# Altium schematic symbol library DE-010824.SchLib: 141 symbols (part 2 of 2)
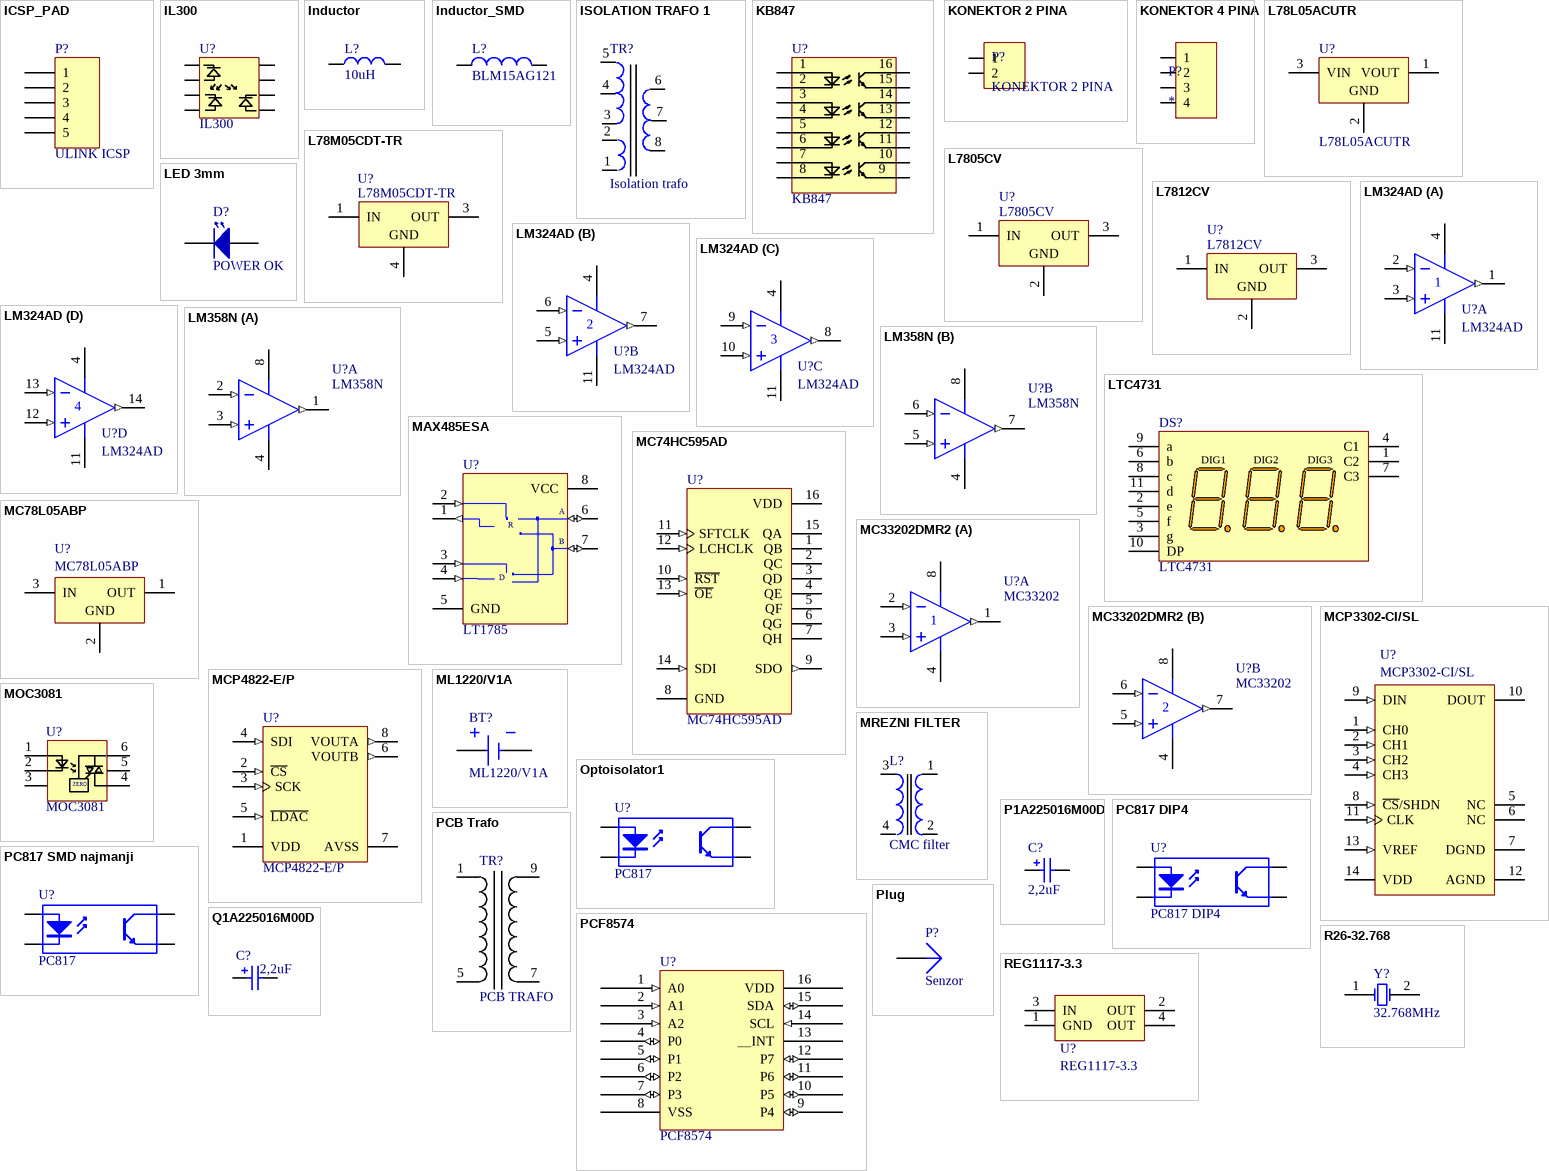
[diagram p4: symbols ICSP_PAD to REG1117-3.3]

## ISOLATION TRAFO 1
designator TR?, comment Isolation trafo
SMPS small ferite toroide trafo
footprint ISOLATION TRAFO 1 (SMPS ferit toroid trafo)
pins: 1, 2, 3, 4, 5, 6, 7, 8

## KB847
designator U?
4 pack DIL optocoupler
footprint KB847 (4 pack optocoupler)
pins: 1, 2, 3, 4, 5, 6, 7, 8, 9, 10, 11, 12, 13, 14, 15, 16

## KONEKTOR 2 PINA
designator P?
Razdvojivi konetor 2 pina
footprint KONEKTOR 2 PINA (Razdvojivi konektor 2 pina)
pins: 1, 2

## KONEKTOR 4 PINA
designator P?
Razdvojivi konektor 4 pina
footprint KONEKTOR 4 PINA (Razdvojivi konektor 4 pina)
pins: 1, 2, 3, 4

## L78L05ACUTR
designator U?
Positive Voltage Regulator, 5V, 4-Pin SOT-89, Tape and Reel; DatasheetVersion: Feb-2011; PackageVersion: 2011; PackageReference: SOT-89; PackageDescription: 3-Pin SOT-89 Package 1.5 mm Pitch, 4.1 mm Lead Span; PartNumber: L78L05ACUTR; ComponentLink1Description: Manufacturer URL; ComponentLink1URL: http://www.st.com; ComponentLink2Description: Datasheet; ComponentLink2URL: http://www.st.com/internet/com/TECHNICAL_RESOURCES/TECHNICAL_LITERATURE/DATASHEET/CD00000446.pdf
footprint SOT-89_N (SOT89, 3-Leads, Body 4.5x2.4 mm, Pitch 1.5mm, Lead Span 4.1mm, IPC Medium Density)
footprint SOT-89_L (SOT89, 3-Leads, Body 4.5x2.4 mm, Pitch 1.5mm, Lead Span 4.1mm, IPC High Density)
footprint SOT-89_M (SOT89, 3-Leads, Body 4.5x2.4 mm, Pitch 1.5mm, Lead Span 4.1mm, IPC Low Density)
pins: 1 VOUT (power), 2 GND (power), 3 VIN (power)

## L78M05CDT-TR
designator U?
Positive Voltage Regulator, 5V, 3-Pin DPAK, Tape and Reel; DatasheetVersion: Nov-2010; PackageVersion: 2011; PackageReference: TO-252; PackageDescription: 3-Pin Transistor Outline Package 2.28 mm Pitch, 9.7 mm Lead Span (DPAK); PartNumber: L78M05CDT-TR; ComponentLink1Description: Manufacturer URL; ComponentLink1URL: http://www.st.com; ComponentLink2Description: Datasheet; ComponentLink2URL: http://www.st.com/internet/com/TECHNICAL_RESOURCES/TECHNICAL_LITERATURE/DATASHEET/CD00000447.pdf
footprint TO-252_N (D-PAK, 4-Leads, Body 6.1x6.5mm, Pitch 2.28mm, Lead Span 9.7mm, IPC Medium Density)
footprint TO-252_L (D-PAK, 4-Leads, Body 6.1x6.5mm, Pitch 2.28mm, Lead Span 9.7mm, IPC High Density)
footprint TO-252_M (D-PAK, 4-Leads, Body 6.1x6.5mm, Pitch 2.28mm, Lead Span 9.7mm, IPC Low Density)
pins: 1 IN (power), 3 OUT (power), 4 GND (power)

## L7805CV
designator U?
Positive Voltage Regulator, 5V, 3-Pin TO-220; DatasheetVersion: Nov-2011; PackageVersion: ver3.0; PackageReference: TO220; PackageDescription: TO, Thru-Hole, Vertical, Heatsink Mounted; 3 In-Line Leads; Pitch 2.54 mm; PartNumber: L7805CV; ComponentLink1Description: Manufacturer URL; ComponentLink1URL: http://www.st.com; ComponentLink2Description: Datasheet; ComponentLink2URL: http://www.st.com/internet/com/TECHNICAL_RESOURCES/TECHNICAL_LITERATURE/DATASHEET/CD00000444.pdf; ComponentLink3Description: Package Specification; ComponentLink3URL: http://www.st.com/internet/com/TECHNICAL_RESOURCES/TECHNICAL_LITERATURE/PACKAGE_INFORMATION/CD00004649.pdf
footprint TO220 (TO, Thru-Hole, Vertical, Heatsink Mounted; 3 In-Line Leads; Pitch 2.54 mm)
pins: 1 IN (power), 2 GND (power), 3 OUT (power)

## L7812CV
designator U?
Positive Voltage Regulator, 12V, 3-Pin TO-220; DatasheetVersion: Nov-2011; PackageVersion: ver3.0; PackageReference: TO220; PackageDescription: TO, Thru-Hole, Vertical, Heatsink Mounted; 3 In-Line Leads; Pitch 2.54 mm; PartNumber: L7812CV; ComponentLink1Description: Manufacturer URL; ComponentLink1URL: http://www.st.com; ComponentLink2Description: Datasheet; ComponentLink2URL: http://www.st.com/internet/com/TECHNICAL_RESOURCES/TECHNICAL_LITERATURE/DATASHEET/CD00000444.pdf; ComponentLink3Description: Package Specification; ComponentLink3URL: http://www.st.com/internet/com/TECHNICAL_RESOURCES/TECHNICAL_LITERATURE/PACKAGE_INFORMATION/CD00004649.pdf
footprint TO220 (TO, Thru-Hole, Vertical, Heatsink Mounted; 3 In-Line Leads; Pitch 2.54 mm)
pins: 1 IN (power), 2 GND (power), 3 OUT (power)

## LED 3mm
designator D?, comment POWER OK
footprint LED 3mm
pins: 1, 2

## LM324AD
designator U?
Quad Low-Power Operational Amplifier; Published: 17-Jul-2002; LatestRevisionDate: 13-Apr-2006; LatestRevisionNote: IPC-7351 Footprint Added.; DatasheetVersion: 1988; PackageVersion: 1991; PackageReference: 751A-02; Publisher: Altium Limited; PackageDescription: 14-Pin Small Outline Integrated Circuit 1.27 mm Pitch; Code_IPC: SOIC127P600-14; ComponentLink1Description: Manufacturer Link; ComponentLink1URL: http://www.onsemi.com/site/products/parametrics/0,4446,251,00.html; ComponentLink2Description: Datasheet; ComponentLink2URL: http://www.onsemi.com/pub/Collateral/LM324-D.PDF
footprint 751A-02_N (SOIC, 14-Leads, Body 8.7x3.9mm, Pitch 1.27mm, IPC Medium Density)
footprint 751A-02_L (SOIC, 14-Leads, Body 8.7x3.9mm, Pitch 1.27mm, IPC High Density)
footprint 751A-02_M (SOIC, 14-Leads, Body 8.7x3.9mm, Pitch 1.27mm, IPC Low Density)
3D model 751A-02 (14-Pin Small Outline Integrated Circuit 1.27 mm Pitch)
pins on every part: 4 V+ (power), 11 V- (power)
part A pins: 1 OUT (out), 2 IN- (in), 3 IN+ (in)
part B pins: 5 IN+ (in), 6 IN- (in), 7 OUT (out)
part C pins: 8 OUT (out), 9 IN- (in), 10 IN+ (in)
part D pins: 12 IN+ (in), 13 IN- (in), 14 OUT (out)

## LM358N
designator U?
Single-Supply Dual Operational Amplifier; Published: 28-Feb-2003; DatasheetVersion: Jan-2002, Rev. 7; PackageVersion: 1998; PackageReference: 626-05; Publisher: Altium Limited; PackageDescription: DIP; 8 Leads; Row Spacing 7.62 mm; Pitch 2.54 mm; ComponentLink1Description: Manufacturer Link; ComponentLink1URL: http://www.onsemi.com/; ComponentLink2Description: Datasheet; ComponentLink2URL: http://www.onsemi.com/pub/Collateral/LM358-D.PDF
footprint DIP8 (DIP; 8 Leads; Row Spacing 7.62 mm; Pitch 2.54 mm)
pins on every part: 4 V- (power), 8 V+ (power)
part A pins: 1 OUT (out), 2 IN- (in), 3 IN+ (in)
part B pins: 5 IN+ (in), 6 IN- (in), 7 OUT (out)

## LTC4731
designator DS?
10 mm Gray Surface 7-Segment Display: 3-Digit with 2-Colons, CC, Slim Font, Untinted-Diffused; LuminousIntensity: 3200 ucd (Minimum).; LED_Colour: Green; Note: No pins are present in positions 9, 10 and 13.; Published: 26-May-2004; LatestRevisionDate: 11-Oct-2004; LatestRevisionNote: Display outline superimposed on PCB Footprint.; DatasheetDocument: 20-Nov-2001; PackageDocument: 20-Nov-2001; PackageReference: HDSP-4; Publisher: Altium Limited; ComponentLink1Description: Manufacturer Link; ComponentLink1URL: http://www.agilent.com/; ComponentLink2Description: Datasheet; ComponentLink2URL: http://cp.literature.agilent.com/litweb/pdf/5988-4824EN.pdf
footprint LTC4731 (Common Cathode 3 digits 7 segment LED display)
pins: 1 C2 "Common Anode2", 2 e "Digits (1-3) e Cathode", 3 g "Digits (1-3) g Cathode", 4 C1 "Common Anode1", 5 f "Digits (1-3) f Cathode", 6 b "Digits (1-3) b Cathode", 7 C3 "Common Anode3", 8 c "Digits (1-3) c Cathode", 9 a "Digits (1-3) a Cathode", 10 DP "DP Cathode", 11 d "Digits (1-3) d Cathode"
text: DIG1; DIG2; DIG3

## MAX485ESA
designator U?, comment LT1785
Low-Power, Slew-Rate-Limited RS-485/RS-422 Transceiver; Published: 16-Jan-2001; LatestRevisionDate: 13-Apr-2006; LatestRevisionNote: IPC-7351 Footprint Added.; DatasheetVersion: Feb-1996; PackageReference: NSO8; Publisher: Altium Limited; PackageDescription: 8-Pin Small Outline Integrated Circuit 1.27 mm Pitch; Code_JEDEC: MS-012-AA; Code_IPC: SOIC127P600-8; ComponentLink1Description: Manufacturer Link; ComponentLink1URL: http://www.maxim-ic.com/; ComponentLink2Description: Datasheet; ComponentLink2URL: http://pdfserv.maxim-ic.com/en/ds/MAX1487-MAX491.pdf
footprint NSO8_N (SOIC, 8-Leads, Body 4.9x3.9mm, Pitch 1.27mm, IPC Medium Density)
footprint NSO8_L (SOIC, 8-Leads, Body 4.9x3.9mm, Pitch 1.27mm, IPC High Density)
footprint NSO8_M (SOIC, 8-Leads, Body 4.9x3.9mm, Pitch 1.27mm, IPC Low Density)
3D model NSO8 (8-Pin Small Outline Integrated Circuit 1.27 mm Pitch)
pins: 1 RO (out), 2 ~{RE} (in), 3 DE (in), 4 DI (in), 5 GND (power), 6 A (io), 7 B (io), 8 VCC (power)
text: R; D

## MC74HC595AD
designator U?
8-Bit Serial-Input/Serial or Prallel-Output Shift Register with Latched 3-State Outputs; Published: 15-Apr-2002; LatestRevisionDate: 13-Apr-2006; LatestRevisionNote: IPC-7351 Footprint Added.; DatasheetVersion: Mar-2000; PackageVersion: Oct-1999; PackageReference: 751B-05; Publisher: Altium Limited; PackageDescription: 16-Pin Small Outline Integrated Circuit 1.27 mm Pitch; Code_JEDEC: MS-012-AC; Code_IPC: SOIC127P600-16; ComponentLink1Description: Manufacturer Link; ComponentLink1URL: http://www.onsemi.com/; ComponentLink2Description: Datasheet; ComponentLink2URL: http://www.onsemi.com/pub/Collateral/MC74HC595A-D.PDF
footprint 751B-05_N (SOIC, 16-Leads, Body 9.9x3.9mm, Pitch 1.27mm, IPC Medium Density)
footprint 751B-05_L (SOIC, 16-Leads, Body 9.9x3.9mm, Pitch 1.27mm, IPC High Density)
footprint 751B-05_M (SOIC, 16-Leads, Body 9.9x3.9mm, Pitch 1.27mm, IPC Low Density)
signal-integrity model MC74HC595AD
pins: 1 QB (hiz), 2 QC (hiz), 3 QD (hiz), 4 QE (hiz), 5 QF (hiz), 6 QG (hiz), 7 QH (hiz), 8 GND (power), 9 SDO (out), 10 ~{RST} (in), 11 SFTCLK (in), 12 LCHCLK (in), 13 ~{OE} (in), 14 SDI (in), 15 QA (hiz), 16 VDD (power)

## MC78L05ABP
designator U?
3-Terminal Low-Current Positive Fixed Voltage Regulator; Published: 17-Jul-2002; DatasheetVersion: 1988; PackageVersion: 1996; PackageReference: 29-04; Publisher: Altium Limited; PackageDescription: TO, Flat Index; 3 In-Line, Axial Leads; Body Dia. 4.8mm; Leads 0.48 x 0.5 mm (max); ComponentLink1Description: Manufacturer Link; ComponentLink1URL: http://www.onsemi.com/site/products/taxonomy/0,4438,503,00.html; ComponentLink2Description: Datasheet; ComponentLink2URL: http://www.onsemi.com/pub/Collateral/MC78L00A-D.PDF
footprint 29-04 (TO, Flat Index; 3 In-Line, Axial Leads; Body Dia. 4.8mm; Leads 0.48 x 0.5 mm (max))
pins: 1 OUT (power), 2 GND (power), 3 IN (power)

## MC33202DMR2
designator U?, comment MC33202
Rail-to-Rail Dual Operational Amplifier; Published: 17-Jul-2002; LatestRevisionDate: 06-Jun-2005; LatestRevisionNote: Stylized 3D Model Added.; DatasheetVersion: Nov-1999; PackageVersion: 1997; PackageReference: 846A-02; Publisher: Altium Limited; PackageDescription: Shrink Small Outline; 8 Leads; Body Width 3 mm; Pitch 0.65 mm; ComponentLink1Description: Manufacturer Link; ComponentLink1URL: http://www.onsemi.com/site/products/parametrics/0,4446,251,00.html; ComponentLink2Description: Datasheet; ComponentLink2URL: http://www.onsemi.com/pub/Collateral/MC33201-D.PDF
footprint 846A-02 (Shrink Small Outline; 8 Leads; Body Width 3 mm; Pitch 0.65 mm)
3D model 846A-02 (Shrink Small Outline; 8 Leads; Body Width 3 mm; Pitch 0.65 mm)
pins on every part: 4 V- (power), 8 V+ (power)
part A pins: 1 OUT (out), 2 IN- (in), 3 IN+ (in)
part B pins: 5 IN+ (in), 6 IN- (in), 7 OUT (out)

## MCP3302-CI/SL
designator U?
13-Bit Differential Input, Low Power A/D Converter with SPI Serial Interface, 14-Pin SOIC 150mil, C Performance Grade, Industrial Temperature; Published: 29-Jan-2009; LatestRevisionDate: 02-Dec-2009; LatestRevisionNote: Updated to datasheet revision E, Dec-2008; DatasheetVersion: revE, Dec-2008; PackageVersion: revBB, Aug-2009; PackageReference: SOIC-SL14; Publisher: Altium Limited; PackageDescription: 14-Lead Plastic Small Outline (SL) - Narrow, 3.90mm Body [SOIC]; Supplier 1: Digi-Key; Supplier Part Number 1: MCP3302-CI/SL-ND; Supplier 2: Farnell; Supplier Part Number 2: 1439394; Code_JEDEC: MS-012-AB; Code_IPC: SOIC127P600-14; ComponentLink1Description: Datasheet; ComponentLink1URL: http://ww1.microchip.com/downloads/en/DeviceDoc/21697e.pdf; ComponentLink2Description: Packaging Specification; ComponentLink2URL: http://www.microchip.com/stellent/groups/techpub_sg/documents/packagingspec/en012702.pdf; ComponentLink3Description: Microchip.com Home; ComponentLink3URL: http://www.microchip.com/
footprint SOIC-SL14_N (SOIC, 14-Leads, Body 8.7x3.9mm, Pitch 1.27mm, IPC Medium Density)
footprint SOIC-SL14_L (SOIC, 14-Leads, Body 8.7x3.9mm, Pitch 1.27mm, IPC High Density)
footprint SOIC-SL14_M (SOIC, 14-Leads, Body 8.7x3.9mm, Pitch 1.27mm, IPC Low Density)
pins: 1 CH0 (in), 2 CH1 (in), 3 CH2 (in), 4 CH3 (in), 5 NC, 6 NC, 7 DGND (power), 8 ~{CS}/SHDN (in), 9 DIN (in), 10 DOUT (hiz), 11 CLK (in), 12 AGND (power), 13 VREF (in), 14 VDD (power)

## MCP4822-E/P
designator U?
12-Bit DACs with Internal VREF and SPI Interface, 8-Pin PDIP, Extended Temperature; Published: 29-Jan-2009; DatasheetVersion: revA, Jun-2005; PackageVersion: revBB, Aug-2009; PackageReference: PDIP300-P8; Publisher: Altium Limited; PackageDescription: 8-Lead Plastic Dual In-Line (P) - 300 mil Body [PDIP]; Supplier 1: Digi-Key; Supplier Part Number 1: MCP4822-E/P-ND; Supplier 2: Farnell; Supplier Part Number 2: 1439413; Code_JEDEC: MS-001; ComponentLink1Description: Datasheet; ComponentLink1URL: http://ww1.microchip.com/downloads/en/DeviceDoc/21953a.pdf; ComponentLink2Description: Packaging Specification; ComponentLink2URL: http://www.microchip.com/stellent/groups/techpub_sg/documents/packagingspec/en012702.pdf; ComponentLink3Description: Microchip.com Home; ComponentLink3URL: http://www.microchip.com/
footprint PDIP300-P8 (DIP, 8-Leads, Row Spacing 7.62mm, Pitch 2.54mm, Body 9.5x6.6mm)
pins: 1 VDD (power), 2 ~{CS} (in), 3 SCK (in), 4 SDI (in), 5 ~{LDAC} (in), 6 VOUTB (out), 7 AVSS (power), 8 VOUTA (out)

## ML1220/V1A
designator BT?
Manganese Rechargeable Lithium Battery with Legs, 3V, 17mAh, Vertical Coin-Type, 12.5x2mm (Dia.xH); Published: 30-May-2008; DatasheetVersion: Sep-2006; PackageVersion: Sep-2002; PackageReference: ML1220-V; Publisher: Altium Limited; PackageDescription: Lithium Disk Battery, Thru-Hole, Vertical; Body 12.5 x 2.6 mm (Dia.xW typ); ComponentLink1Description: Manufacturer Link; ComponentLink1URL: http://industrial.panasonic.com/; ComponentLink2Description: Datasheet; ComponentLink2URL: http://industrial.panasonic.com/www-data/pdf2/AAA4000/AAA4000CE69.pdf
footprint ML1220-V (Battery, Thru-Hole, Vertical Disk; 2 Leads, Body 12.5 x 2.6 mm (Dia.xW typ))
pins: 1 +, 2 -

## MOC3081
designator U?
Zero-Cross Optoisolator Triac Driver
footprint DIP6
pins: 1, 2, 3, 4, 5, 6
text: ZERO

## MREZNI FILTER
designator L?, comment CMC filter
footprint MREZNI FILTER (Filter mrežnih smetnji)
pins: 1, 2, 3, 4

## Optoisolator1
designator U?, comment PC817
4-Pin Phototransistor Optocoupler; Published: 24-Mar-1999; LatestRevisionDate: 04-Mar-2005; LatestRevisionNote: Sch pins 3 & 4 Swapped.; DatasheetVersion: Nov-2003; PackageReference: DIP-4; Publisher: Altium Limited
footprint DIP-4 (DIP; 4 Leads; Row Spacing 7.62 mm; Pitch 2.54 mm)
pins: 1 A "Anode", 2 K "Cathode", 3 E "Emitter", 4 C "Collector"

## P1A225016M00D
designator C?, comment 2,2uF
Resin-Coated, Radial-Leaded Solid Tantalum Capacitor: 2.2uF, 20% Tolerance, UR = 16 Volt @ +85°C, Surge = 20.8V; Note: See Data Sheet for full range of components; Published: 19-Mar-2004; DatasheetDocument: 28-Mar-2002; PackageReference: ETPW-1A; Publisher: Altium Limited; ComponentLink1Description: Manufacturer Link; ComponentLink1URL: http://www.vishay.com/; ComponentLink2Description: Datasheet; ComponentLink2URL: http://www.vishay.com/docs/42074/etpw.pdf; Value: 2.2uF
footprint ETPW-1A (Capacitor, Tantalum Bead; Body 4 x 7.1 mm (Dia.xH max); Pin Spacing 2.5 mm (typ))
simulation model CAP (Capacitor)
signal-integrity model P1A225016M00D
pins: 1, 2
1 alternate drawing of the same symbol

## PC817 DIP4
designator U?
4-Pin Phototransistor Optocoupler; Published: 24-Mar-1999; LatestRevisionDate: 04-Mar-2005; LatestRevisionNote: Sch pins 3 & 4 Swapped.; DatasheetVersion: Nov-2003; PackageReference: DIP-4; Publisher: Altium Limited
footprint DIP-4 (DIP; 4 Leads; Row Spacing 7.62 mm; Pitch 2.54 mm)
pins: 1 A "Anode", 2 K "Cathode", 3 E "Emitter", 4 C "Collector"

## PC817 SMD najmanji
designator U?, comment PC817
4-Pin Phototransistor Optocoupler; Published: 24-Mar-1999; LatestRevisionDate: 04-Mar-2005; LatestRevisionNote: Sch pins 3 & 4 Swapped.; DatasheetVersion: Nov-2003; PackageReference: DIP-4; Publisher: Altium Limited
footprint SOP4
pins: 1 A "Anode", 2 K "Cathode", 3 E "Emitter", 4 C "Collector"

## PCB Trafo
designator TR?, comment PCB TRAFO
PCB EI38 transformer, prim:220Vac, sec:15Vac
footprint PCB Trafo (PCB Trafo 220Vac / 15Vac , 4,5VA)
pins: 1, 5, 7, 9

## PCF8574
designator U?
Remote 8-bit I/O expander for I2C-bus
footprint DIP16
pins: 1 A0 (in), 2 A1 (in), 3 A2 (in), 4 P0 (io), 5 P1 (io), 6 P2 (io), 7 P3 (io), 8 VSS (power), 9 P4 (io), 10 P5 (io), 11 P6 (io), 12 P7 (io), 13 __INT, 14 SCL (in), 15 SDA (io), 16 VDD (power)

## Plug
designator P?, comment Senzor
Plug; LatestRevisionDate: 17-Jul-2002; LatestRevisionNote: Re-released for DXP Platform.; Publisher: Altium Limited
footprint PIN1 (Connector; Plug)
signal-integrity model Connector
pins: 1

## Q1A225016M00D
designator C?, comment 2,2uF
Resin-Coated, Radial-Lead Solid Tantalum Capacitor: 2.2uF, 20% Tolerance, UR = 16 Volt @ +85°C, Surge = 20.8V; Note: See Data Sheet for full range of components; Published: 19-Mar-2004; DatasheetDocument: 28-Mar-2002; PackageReference: ETQW-1A; Publisher: Altium Limited; ComponentLink1Description: Manufacturer Link; ComponentLink1URL: http://www.vishay.com/; ComponentLink2Description: Datasheet; ComponentLink2URL: http://www.vishay.com/docs/42075/etqw.pdf; Value: 2.2uF
footprint ETQW-1A (Capacitor, Tantalum Bead; Body 4.5 x 7.5 mm (Dia.xH max); Pin Spacing 2.5 mm (typ))
simulation model CAP (Capacitor)
signal-integrity model Q1A225016M00D
pins: 1, 2
1 alternate drawing of the same symbol

## R26-32.768
designator Y?, comment 32.768MHz
Tuning Fork Crystal Unit; Published: 8-Jun-2000; LatestRevisionDate: 17-Jul-2002; LatestRevisionNote: Re-released for DXP Platform.; DatasheetDocument: 28-Sep-1998; PackageReference: R26; Publisher: Altium Limited; ComponentLink1Description: Manufacturer Link; ComponentLink1URL: http://www.raltron.com/products/microcrystals/default.asp; ComponentLink2Description: Datasheet; ComponentLink2URL: http://www.raltron.com/products/pdfspecs/crystal_r38_26_145.pdf
footprint R26 (Crystal, Thru-Hole; 2 Leads; Body 2.1 x 6.2 mm (Dia.xH))
simulation model R26-32.768 (SUBCKT)
pins: 1 OSC1, 2 OSC2

## REG1117-3.3
designator U?
800mA and 1A Low Dropout Positive Regulator 2.85V, 3.3V, 5V, and Adjustable; Published: 8-Jun-2000; LatestRevisionDate: 17-Jul-2002; LatestRevisionNote: Re-released for DXP Platform.; DatasheetVersion: Sep-1997; PackageVersion: revC; PackageReference: ZZ311; Publisher: Altium Limited; PackageDescription: SOT-223/SC-73; 4 Leads; Body 6.7 x 7.3 mm, inc. leads (LxW max); ComponentLink1Description: Manufacturer Link; ComponentLink1URL: http://www.ti.com/; ComponentLink2Description: Datasheet; ComponentLink2URL: http://www-s.ti.com/sc/ds/REG1117.pdf
footprint ZZ311 (SOT-223/SC-73; 4 Leads; Body 6.7 x 7.3 mm, inc. leads (LxW max))
pins: 1 GND (power), 2 OUT (power), 3 IN (power), 4 OUT (power)

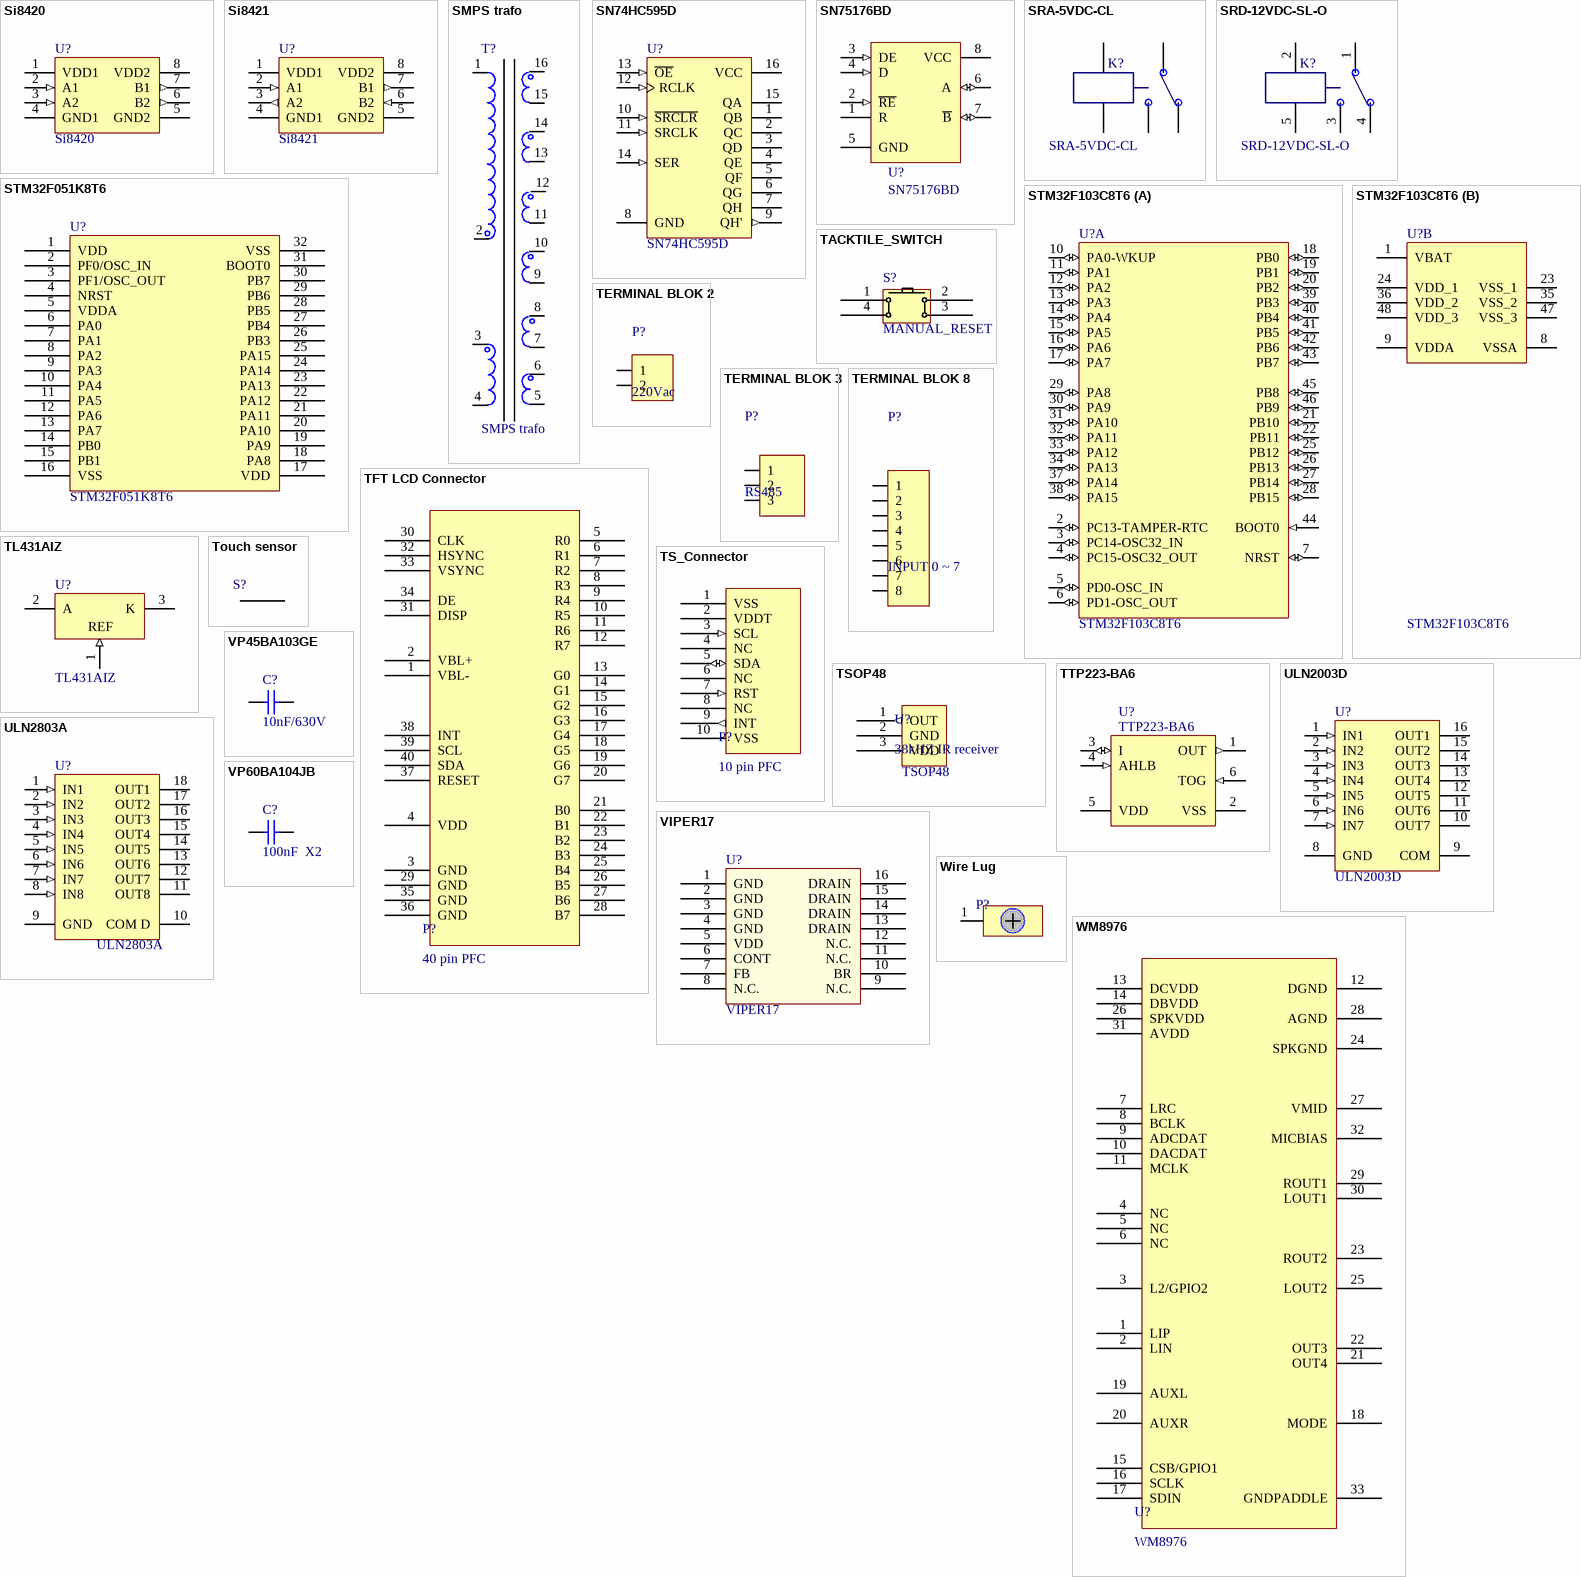
[diagram p3: symbols Si8420 to WM8976]

## Si8420
designator U?
Silicon Labs digital signal isolator
footprint SOP8
pins: 1 VDD1 (power), 2 A1 (in), 3 A2 (in), 4 GND1 (power), 5 GND2 (power), 6 B2 (out), 7 B1 (out), 8 VDD2 (power)

## Si8421
designator U?
Silicon Labs low power dual chanel digital isolator
footprint SOP8
pins: 1 VDD1 (power), 2 A1 (in), 3 A2 (out), 4 GND1 (power), 5 GND2 (power), 6 B2 (in), 7 B1 (out), 8 VDD2 (power)

## SMPS trafo
designator T?
SMPS EI core ferrite trafo
footprint PSU trafo (SMPSU feritni trafo)
pins: 1, 2, 3, 4, 5, 6, 7, 8, 9, 10, 11, 12, 13 113, 14 114, 15 115, 16 116

## SN74HC595D
designator U?
8-Bit Shift Register with 3-State Output Registers; Published: 8-Jun-2000; LatestRevisionDate: 13-Apr-2006; LatestRevisionNote: IPC-7351 Footprint Added.; DatasheetVersion: May-1997; PackageVersion: Jan-1998; PackageReference: D016; Publisher: Altium Limited; PackageDescription: 16-Pin Small Outline Integrated Circuit 1.27 mm Pitch; Code_IPC: SOIC127P600-16; ComponentLink1Description: Manufacturer Link; ComponentLink1URL: http://www.ti.com/; ComponentLink2Description: Datasheet; ComponentLink2URL: http://www-s.ti.com/sc/ds/sn74hc595.pdf
footprint D016_N (SOIC, 16-Leads, Body 9.9x3.9mm, Pitch 1.27mm, IPC Medium Density)
footprint D016_L (SOIC, 16-Leads, Body 9.9x3.9mm, Pitch 1.27mm, IPC High Density)
footprint D016_M (SOIC, 16-Leads, Body 9.9x3.9mm, Pitch 1.27mm, IPC Low Density)
3D model D016 (16-Pin Small Outline Integrated Circuit 1.27 mm Pitch)
signal-integrity model SN74HC595D
pins: 1 QB (hiz), 2 QC (hiz), 3 QD (hiz), 4 QE (hiz), 5 QF (hiz), 6 QG (hiz), 7 QH (hiz), 8 GND (power), 9 QH' (out), 10 ~{SRCLR} (in), 11 SRCLK (in), 12 RCLK (in), 13 ~{OE} (in), 14 SER (in), 15 QA (hiz), 16 VCC (power)

## SN75176BD
designator U?
Differential Bus Transceiver; Note: Receiver Hysteresis of 50mV Typical; Published: 15-May-2002; LatestRevisionDate: 13-Apr-2006; LatestRevisionNote: IPC-7351 Footprint Added.; DatasheetVersion: Sep-1989; PackageVersion: Jan-1998; PackageReference: D008; Publisher: Altium Limited; PackageDescription: 8-Pin Small Outline Integrated Circuit 1.27 mm Pitch; Code_IPC: SOIC127P600-8; ComponentLink1Description: Manufacturer Link; ComponentLink1URL: http://www.ti.com/; ComponentLink2Description: Datasheet; ComponentLink2URL: http://www-s.ti.com/sc/ds/sn75176b.pdf
footprint D008_N (SOIC, 8-Leads, Body 4.9x3.9mm, Pitch 1.27mm, IPC Medium Density)
footprint D008_L (SOIC, 8-Leads, Body 4.9x3.9mm, Pitch 1.27mm, IPC High Density)
footprint D008_M (SOIC, 8-Leads, Body 4.9x3.9mm, Pitch 1.27mm, IPC Low Density)
3D model D008 (8-Pin Small Outline Integrated Circuit 1.27 mm Pitch)
pins: 1 R (hiz), 2 ~{RE} (in), 3 DE (in), 4 D (in), 5 GND (power), 6 A (io), 7 ~{B} (io), 8 VCC (power)

## SRA-5VDC-CL
designator K?
SPDT PCB relay 5Vdc coil
footprint SRA-5VDC-CL (SPDT PCB Relay 5Vdc coil)
pins: 1 "COM", 2 "Coil", 3 "NO", 4 "NC", 5 "Coil"

## SRD-12VDC-SL-O
designator K?
SPDT PCB relay 12Vc coil
footprint SRD-12VDC-SL-O (Print Relay 12Vdc NC-NO)
pins: 1 "COM", 2 "Coil", 3 "NO", 4 "NC", 5 "Coil"

## STM32F051K8T6
designator U?
footprint Quad32 (STM32 QLF32 package)
pins: 1 VDD, 2 PF0/OSC_IN, 3 PF1/OSC_OUT, 4 NRST, 5 VDDA, 6 PA0, 7 PA1, 8 PA2, 9 PA3, 10 PA4, 11 PA5, 12 PA6, 13 PA7, 14 PB0, 15 PB1, 16 VSS, 17 VDD, 18 PA8, 19 PA9, 20 PA10, 21 PA11, 22 PA12, 23 PA13, 24 PA14, 25 PA15, 26 PB3, 27 PB4, 28 PB5, 29 PB6, 30 PB7, 31 BOOT0, 32 VSS

## STM32F103C8T6
designator U?
ARM Cortex-M3 32-bit MCU, 64 KB Flash, 20 KB Internal RAM, 37 I/Os, 48-pin LQFP, -40 to 85 degC, Tray; A/D Converter: 2x12-bit (10 Channel); FLASH Size (Prog) (kB): 64; I/Os (High Current): 37; Internal RAM Size (kB): 20; Operating Frequency(F) (Processor speed) (MHz): 72; Supply Voltage(Vcc) min (V): 2; DatasheetVersion: Rev. 16; PackageVersion: Rev. 6, 06/2013; PackageReference: LQFP48; PackageDescription: 48-Pin Low Profile Quad Flat Package, 7 x 7 mm Body, 0.5 mm Pitch; Supplier 1: Digi-Key; Supplier Part Number 1: 497-6063-ND; Supplier 2: Farnell; Supplier Part Number 2: 1447637; Supplier 3: Newark; Supplier Part Number 3: 59M2182; Supplier 4: Newark; Supplier Part Number 4: 57P1222; Supplier 5: Mouser; Supplier Part Number 5: 511-STM32F103C8T6; Core: ARM Cortex-M3; Packing: Tray; Mounting Technology: Surface Mount; PartNumber: STM32F103C8T6; ComponentLink1Description: Manufacturer URL; ComponentLink1URL: http://www.st.com/web/en/home.html; ComponentLink2Description: Datasheet; ComponentLink2URL: http://www.st.com/st-web-ui/static/active/en/resource/technical/document/datasheet/CD00161566.pdf; ComponentLink3Description: Package Specification; ComponentLink3URL: http://www.st.com/st-web-ui/static/active/en/resource/technical/document/datasheet/DM00058181.pdf
footprint STM-LQFP48_N (QFP, 48-Leads, Body 7x7mm, Pitch 0.5mm, IPC Medium Density)
footprint STM-LQFP48_L (QFP, 48-Leads, Body 7x7mm, Pitch 0.5mm, IPC High Density)
footprint STM-LQFP48_M (QFP, 48-Leads, Body 7x7mm, Pitch 0.5mm, IPC Low Density)
part A pins: 2 PC13-TAMPER-RTC (io) "PC13-TAMPER-RTC/PC13/TAMPER-RTC", 3 PC14-OSC32_IN (io) "PC14-OSC32_IN/PC14/OSC32_IN", 4 PC15-OSC32_OUT (io) "PC15-OSC32_OUT/PC15/OSC32_OUT", 5 PD0-OSC_IN (io) "PD0/OSC_IN", 6 PD1-OSC_OUT (io) "PD1/OSC_OUT", 7 NRST (io), 10 PA0-WKUP (io) "PA0-WKUP/PA0/WKUP/USART2_CTS/ADC12_IN0/TIM2_CH1_ETR", 11 PA1 (io) "PA1/USART2_RTS/ADC12_IN1/TIM2_CH2", 12 PA2 (io) "PA2/USART2_TX/ADC12_IN2/TIM2_CH3", 13 PA3 (io) "PA3/USART2_RX/ADC12_IN3/TIM2_CH4", 14 PA4 (io) "PA4/SPI1_NSS/USART2_CK/ADC12_IN4", 15 PA5 (io) "PA5/SPI1_SCK/ADC12_IN5", 16 PA6 (io) "PA6/SPI1_MISO/ADC12_IN6/TIM3_CH1/TIM1_BKIN", 17 PA7 (io) "PA7/SPI1_MOSI/ADC12_IN7/TIM3_CH2/TIM1_CH1N", 18 PB0 (io) "PB0/ADC12_IN8/TIM3_CH3/TIM1_CH2N", 19 PB1 (io) "PB1/ADC12_IN9/TIM3_CH4/TIM1_CH3N", 20 PB2 (io) "PB2/BOOT1", 21 PB10 (io) "PB10/I2C2_SCL/USART3_TX/TIM2_CH3", 22 PB11 (io) "PB11/I2C2_SDA/USART3_RX/TIM2_CH4", 25 PB12 (io) "PB12/SPI2_NSS/I2C2_SMBAl/USART3_CK/TIM1_BKIN", 26 PB13 (io) "PB13/SPI2_SCK/USART3_CTS/TIM1_CH1N", 27 PB14 (io) "PB14/SPI2_MISO/USART3_RTS/TIM1_CH2N", 28 PB15 (io) "PB15/SPI2_MOSI/TIM1_CH3N", 29 PA8 (io) "PA8/USART1_CK/TIM1_CH1/MCO", 30 PA9 (io) "PA9/USART1_TX/TIM1_CH2", 31 PA10 (io) "PA10/USART1_RX/TIM1_CH3", 32 PA11 (io) "PA11/USART1_CTS/CANRX/USBDM/TIM1_CH4", 33 PA12 (io) "PA12/USART1_RTS/CANTX/USBDP/TIM1_ETR", 34 PA13 (io) "PA13/JTMS/SWDIO", 37 PA14 (io) "PA14/JTCK/SWCLK", 38 PA15 (io) "PA15/JTDI/TIM2_CH1_ETR/SPI1_NSS", 39 PB3 (io) "PB3/JTDO/TIM2_CH2/TRACESWO/SPI1_SCK", 40 PB4 (io) "PB4/NJTRST/TIM3_CH1/SPI1_MISO", 41 PB5 (io) "PB5/I2C1_SMBAI/TIM3_CH2/SPI1_MOSI", 42 PB6 (io) "PB6/I2C1_SCL/TIM4_CH1/USART1_TX", 43 PB7 (io) "PB7/I2C1_SDA/TIM4_CH2/USART1_RX", 44 BOOT0 (in), 45 PB8 (io) "PB8/TIM4_CH3/I2C1_SCL/CANRX", 46 PB9 (io) "PB9/TIM4_CH4/I2C1_SDA/CANTX"
part B pins: 1 VBAT (power), 8 VSSA (power), 9 VDDA (power), 23 VSS_1 (power), 24 VDD_1 (power), 35 VSS_2 (power), 36 VDD_2 (power), 47 VSS_3 (power), 48 VDD_3 (power)

## TACKTILE_SWITCH
designator S?, comment MANUAL_RESET
footprint TACTILE_SWITCH (PCB push button)
pins: 1, 2, 3, 4

## TERMINAL BLOK 2
designator P?, comment 220Vac
Terminal blok konektor 3,5 mm
footprint TERMINAL BLOK 2 (Terminal blok 3,5mm)
pins: 1, 2

## TERMINAL BLOK 3
designator P?, comment RS485
3 pinski terminal blok konektor
footprint TERMINAL BLOK 3 (3 pinski terminal blok konektor)
pins: 1, 2, 3

## TERMINAL BLOK 8
designator P?, comment INPUT 0 ~ 7
8 pin terminal cable connector
footprint 8 PIN TERMINAL BLOCK (8 pin cable terminal connector)
pins: 1, 2, 3, 4, 5, 6, 7, 8

## TFT LCD Connector
designator P?, comment 40 pin PFC
40 pin pfc connector bottom
footprint 40 pin FPC
pins: 1 VBL-, 2 VBL+, 3 GND, 4 VDD, 5 R0, 6 R1, 7 R2, 8 R3, 9 R4, 10 R5, 11 R6, 12 R7, 13 G0, 14 G1, 15 G2, 16 G3, 17 G4, 18 G5, 19 G6, 20 G7, 21 B0, 22 B1, 23 B2, 24 B3, 25 B4, 26 B5, 27 B6, 28 B7, 29 GND, 30 CLK, 31 DISP, 32 HSYNC, 33 VSYNC, 34 DE, 35 GND, 36 GND, 37 RESET, 38 INT, 39 SCL, 40 SDA

## TL431AIZ
designator U?
Programmable Voltage Reference; Published: 24-Aug-2001; LatestRevisionDate: 17-Jul-2002; LatestRevisionNote: Re-released for DXP Platform.; DatasheetVersion: Nov-1998; PackageReference: TO92; Publisher: Altium Limited; PackageDescription: TO, Flat Index; 3 In-Line, Axial Leads; Body Dia. 4.8mm; Leads 0.51 x 0.51 mm (max); ComponentLink1Description: Manufacturer Link; ComponentLink1URL: http://www.st.com/; ComponentLink2Description: Datasheet; ComponentLink2URL: http://www.st.com/stonline/products/literature/ds/4467/tl431.pdf
footprint TO92 (TO, Flat Index; 3 In-Line, Axial Leads; Body Dia. 4.8mm; Leads 0.51 x 0.51 mm (max))
pins: 1 REF (in), 2 A, 3 K

## Touch sensor
designator S?, comment TOUCH  (value not drawn)
footprint SENSOR_PAD (pcb trace touch sensor pad)
pins: 1

## TS_Connector
designator P?, comment 10 pin PFC
10 pin PFC connector bottom
footprint 10 pin PFC
pins: 1 VSS (power), 2 VDDT (power), 3 SCL (in), 4 NC, 5 SDA (io), 6 NC, 7 RST (in), 8 NC, 9 INT (out), 10 VSS (power)

## TSOP48
designator U?, comment 38kHZ IR receiver  value TSOP48
IR Receiver Modules for Remote Control Systems
footprint TSOP48 (38kHZ IR receiver)
pins: 1 OUT (out), 2 GND (power), 3 VDD (power)

## TTP223-BA6
designator U?
One-channel Toggle-mode Touch Sensor IC with Power Management Functions, 6-pin SOT23; Published: 1-Apr-2010; DatasheetVersion: revCS, Feb-2010; PackageVersion: revA, Jun-2008; PackageReference: 6ST1; Publisher: Altium Limited; PackageDescription: 6-Lead, 2.90 x 1.60 mm Plastic Small Outline Package (SOT23); Code_JEDEC: MO-178-AB; Code_IPC: SOT26A-6; ComponentLink1Description: Manufacturer Link; ComponentLink1URL: http://www.atmel.com/products/overview_touch.asp?; ComponentLink2Description: AT42QT1012 Summary; ComponentLink2URL: http://www.atmel.com/dyn/resources/prod_documents/9543S.pdf; ComponentLink3Description: Atmel.com Home; ComponentLink3URL: http://www.atmel.com
footprint 6ST1_N (SOT23, 6-Leads, Body 2.9x1.6mm, Pitch 0.95mm, Lead Span 2.7mm, IPC Medium Density)
footprint 6ST1_L (SOT23, 6-Leads, Body 2.9x1.6mm, Pitch 0.95mm, Lead Span 2.7mm, IPC High Density)
footprint 6ST1_M (SOT23, 6-Leads, Body 2.9x1.6mm, Pitch 0.95mm, Lead Span 2.7mm, IPC Low Density)
pins: 1 OUT (out), 2 VSS (power), 3 I (io), 4 AHLB (in), 5 VDD (power), 6 TOG (in)

## ULN2003D
designator U?
Seven Darlington Array; Published: 8-Jun-2000; LatestRevisionDate: 13-Apr-2006; LatestRevisionNote: IPC-7351 Footprint Added.; DatasheetVersion: Sep-1998; PackageVersion: May-1998; PackageReference: SO16; Publisher: Altium Limited; PackageDescription: 16-Pin Small Outline Integrated Circuit 1.27 mm Pitch; Code_IPC: SOIC127P600-16; ComponentLink1Description: Manufacturer Link; ComponentLink1URL: http://www.st.com/; ComponentLink2Description: Datasheet; ComponentLink2URL: http://www.st.com/stonline/products/literature/ds/5279/uln2001.pdf
footprint SO16_N (SOIC, 16-Leads, Body 9.9x3.9mm, Pitch 1.27mm, IPC Medium Density)
footprint SO16_L (SOIC, 16-Leads, Body 9.9x3.9mm, Pitch 1.27mm, IPC High Density)
footprint SO16_M (SOIC, 16-Leads, Body 9.9x3.9mm, Pitch 1.27mm, IPC Low Density)
3D model SO16 (16-Pin Small Outline Integrated Circuit 1.27 mm Pitch)
pins: 1 IN1 (in), 2 IN2 (in), 3 IN3 (in), 4 IN4 (in), 5 IN5 (in), 6 IN6 (in), 7 IN7 (in), 8 GND (power), 9 COM, 10 OUT7 (oc), 11 OUT6 (oc), 12 OUT5 (oc), 13 OUT4 (oc), 14 OUT3 (oc), 15 OUT2 (oc), 16 OUT1 (oc)

## ULN2803A
designator U?
High-Voltage, High-Current Darlington Array; Published: 13-Oct-2000; LatestRevisionDate: 06-Jun-2005; LatestRevisionNote: Stylized 3D Model Added.; DatasheetVersion: 1999; PackageVersion: 1999; PackageReference: A18; Publisher: Altium Limited; PackageDescription: DIP; 18 Leads; Row Spacing 7.62 mm; Pitch 2.54 mm; ComponentLink1Description: Manufacturer Link; ComponentLink1URL: http://www.allegromicro.com/
footprint SOP18
pins: 1 IN1 (in), 2 IN2 (in), 3 IN3 (in), 4 IN4 (in), 5 IN5 (in), 6 IN6 (in), 7 IN7 (in), 8 IN8 (in), 9 GND (power), 10 COM D, 11 OUT8 (oc), 12 OUT7 (oc), 13 OUT6 (oc), 14 OUT5 (oc), 15 OUT4 (oc), 16 OUT3 (oc), 17 OUT2 (oc), 18 OUT1 (oc)

## VIPER17
designator U?
footprint SOP16
pins: 1 GND (power), 2 GND (power), 3 GND (power), 4 GND (power), 5 VDD (power), 6 CONT, 7 FB, 8 N.C., 9 N.C., 10 BR, 11 N.C., 12 N.C., 13 DRAIN (oc), 14 DRAIN (oc), 15 DRAIN (oc), 16 DRAIN (oc)

## VP45BA103GE
designator C?, comment 10nF/630V
Dipped Radial Multilayer Ceramic Capacitor COG (NPO): 10nF, 500V; Published: 17-Dec-2003; DatasheetDocument: 2-Jan-2002; PackageDocument: 2-Jan-2002; PackageReference: VP45-3.2; Publisher: Altium Limited; ComponentLink1Description: Manufacturer Link; ComponentLink1URL: http://www.vishay.com/; Value: 10nF
footprint VP45-3.2 (Capacitor, Ceramic, Thru-Hole, Dipped Radial; Body 7.8 x 3.2 mm (WxT) Pin Spacing 5.08 mm (typ))
simulation model CAP (Capacitor)
signal-integrity model Cap
pins: 1, 2

## VP60BA104JB
designator C?, comment 100nF  X2
Dipped Radial Multilayer Ceramic Capacitor COG (NPO): 100nF, 100V; Published: 17-Dec-2003; LatestRevisionDate: 19-Mar-2004; LatestRevisionNote: PCB Footprint - Drill hole diameter reduced.; DatasheetDocument: 2-Jan-2002; PackageDocument: 2-Jan-2002; PackageReference: VP60-3.6; Publisher: Altium Limited; ComponentLink1Description: Manufacturer Link; ComponentLink1URL: http://www.vishay.com/; Value: 100nF
footprint VP60-3.6 (Capacitor, Ceramic, Thru-Hole, Dipped Radial; Body 11.5 x 3.6 mm (WxT) Pin Spacing 10.16 mm (typ))
simulation model CAP (Capacitor)
signal-integrity model Cap
pins: 1, 2

## Wire Lug
designator P?, comment Single Wire Lug  (value not drawn)
footprint Single Wire Lug (Single Wire terminal Connector)
pins: 1

## WM8976
designator U?
Stereo CODEC with speaker driver
footprint QFN32_N (QFN, 32-Leads, Body 7x7 mm, Pitch 0.65mm, IPC Medium Density)
pins: 1 LIP, 2 LIN, 3 L2/GPIO2, 4 NC, 5 NC, 6 NC, 7 LRC, 8 BCLK, 9 ADCDAT, 10 DACDAT, 11 MCLK, 12 DGND (power), 13 DCVDD (power), 14 DBVDD (power), 15 CSB/GPIO1, 16 SCLK, 17 SDIN, 18 MODE, 19 AUXL, 20 AUXR, 21 OUT4, 22 OUT3, 23 ROUT2, 24 SPKGND (power), 25 LOUT2, 26 SPKVDD (power), 27 VMID (power), 28 AGND (power), 29 ROUT1, 30 LOUT1, 31 AVDD (power), 32 MICBIAS (power), 33 GNDPADDLE